# EAGLE library part CC2511 (library X893)
True System-on-Chip with Low Power RF Transceiver and 8051 MCU 2.4 GHz ISM/SRD band systems Full-Speed USB Controller
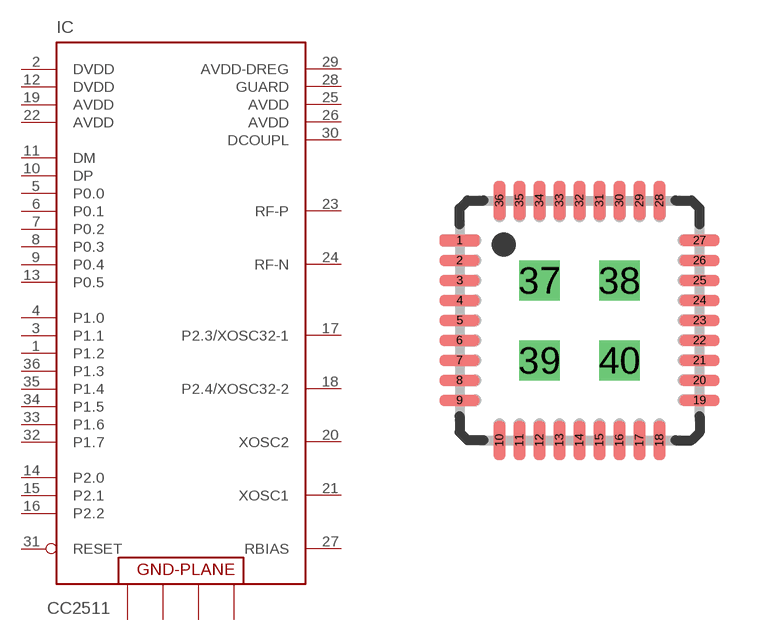
[diagram p23: symbol with the pads of QFN36; footprint QFN36]

Designator prefix IC

## CC2511  [QFN36]
1  P1.2
2  DVDD  pas
3  P1.1
4  P1.0
5  P0.0
6  P0.1
7  P0.2
8  P0.3
9  P0.4
10  DP
11  DM
12  DVDD  pas
13  P0.5
14  P2.0
15  P2.1
16  P2.2
17  P2.3/XOSC32-1  pas
18  P2.4/XOSC32-2  pas
19  AVDD  pas
20  XOSC2  pas
21  XOSC1  pas
22  AVDD  pas
23  RF-P  pas
24  RF-N  pas
25  AVDD  pas
26  AVDD  pas
27  RBIAS  pas
28  GUARD  pas
29  AVDD-DREG  pas
30  DCOUPL  pas
31  RESET  in
32  P1.7
33  P1.6
34  P1.5
35  P1.4
36  P1.3
37  GND  sup
38  GND  sup
39  GND  sup
40  GND  sup

## Footprint QFN36 (pad centres in mm)
QFN50P600X600X90-37N
smd 1 x 0.3: 1 -3,2; 2 -3,1.5; 3 -3,1; 4 -3,0.5; 5 -3,0; 6 -3,-0.5; 7 -3,-1; 8 -3,-1.5; 9 -3,-2; 19 3,-2; 20 3,-1.5; 21 3,-1; 22 3,-0.5; 23 3,0; 24 3,0.5; 25 3,1; 26 3,1.5; 27 3,2
smd 0.3 x 1: 10 -2,-3; 11 -1.5,-3; 12 -1,-3; 13 -0.5,-3; 14 0,-3; 15 0.5,-3; 16 1,-3; 17 1.5,-3; 18 2,-3; 28 2,3; 29 1.5,3; 30 1,3; 31 0.5,3; 32 0,3; 33 -0.5,3; 34 -1,3; 35 -1.5,3; 36 -2,3
drill 0.5 pad 0.85 square: 37 -1,1; 38 1,1; 39 -1,-1; 40 1,-1